# Altium footprint library molex.PcbLib: 3 footprints
Each footprint in its own frame and in the unit in brackets; x right, y up, seen from the top. Pads: shape width x height; smd on the part's side, far side on the other; paste and mask are expansions set on the pad; w line width, h text height; cw(c..) or ccw(c..) is an arc to the next point about the centre after c.
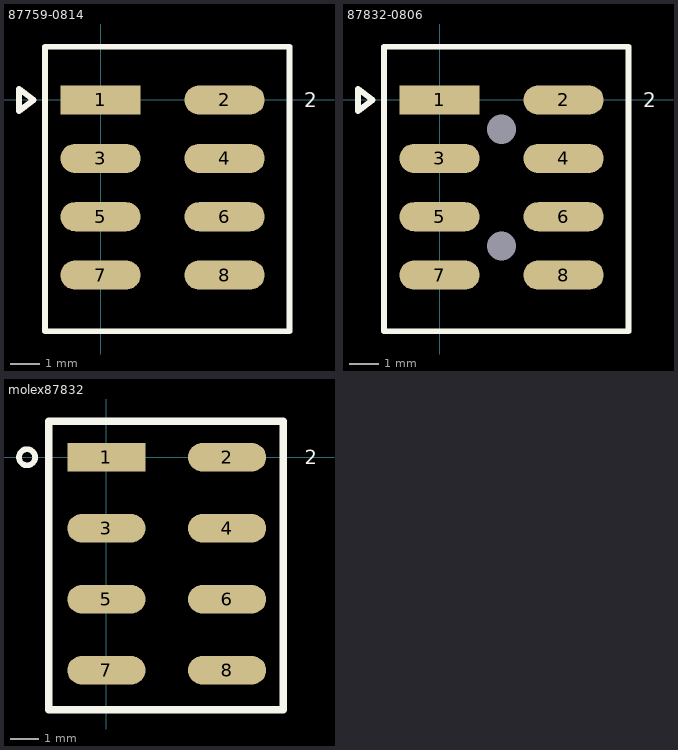
[diagram p0: the footprints below, top view; thin cyan lines are the x and y axes]

## 87759-0814 [mm]
pads (8):
  rect 2.75x1 smd: 1(0,0)
  oval 2.75x1 smd: 2(4.25,0) 3(0,-2) 4(4.25,-2) 5(0,-4) 6(4.25,-4) 7(0,-6) 8(4.25,-6)
Top Overlay:
  lines w0.2: -2.794,-0.381 -2.794,0.381 -2.286,0 -2.794,-0.381 ; -1.905,-7.925 -1.905,1.825 6.477,1.825 6.477,-7.925 -1.905,-7.925
  text "2" at 6.985,-0.254 h0.5
3D body "877590814.stp": height 6.5, standoff 0, extent -0.55,-6.9 4.95,1

## 87832-0806 [mm]
pads (10):
  rect 2.75x1 smd: 1(0,0)
  oval 2.75x1 smd: 2(4.25,0) 3(0,-2) 4(4.25,-2) 5(0,-4) 6(4.25,-4) 7(0,-6) 8(4.25,-6)
  round 0 hole 1: H(2.125,-5) H(2.125,-1)
Top Overlay:
  lines w0.2: -2.794,-0.381 -2.794,0.381 -2.286,0 -2.794,-0.381 ; -1.905,-7.925 -1.905,1.825 6.477,1.825 6.477,-7.925 -1.905,-7.925
  text "2" at 6.985,-0.254 h0.5
3D body "878320806.stp": height 9.05, standoff -0.75, extent -1.05,-8.325 5.3,2.325

## molex87832 [mm]
pads (8):
  rect 2.75x1 smd: 1(0,0)
  oval 2.75x1 smd: 2(4.25,0) 3(0,-2.5) 4(4.25,-2.5) 5(0,-5) 6(4.25,-5) 7(0,-7.5) 8(4.25,-7.5)
Top Overlay:
  circle w0.2: c-2.794,0 r0.284
  lines w0.254: -2.032,-8.89 6.223,-8.89 6.223,1.27 -2.032,1.27 -2.032,-8.89
  text "2" at 6.985,-0.254 h0.5